# Altium footprint library Euroquartz.PcbLib: 3 footprints
Each footprint in its own frame and in the unit in brackets; x right, y up, seen from the top. Pads: shape width x height; smd on the part's side, far side on the other; paste and mask are expansions set on the pad; w line width, h text height; cw(c..) or ccw(c..) is an arc to the next point about the centre after c.
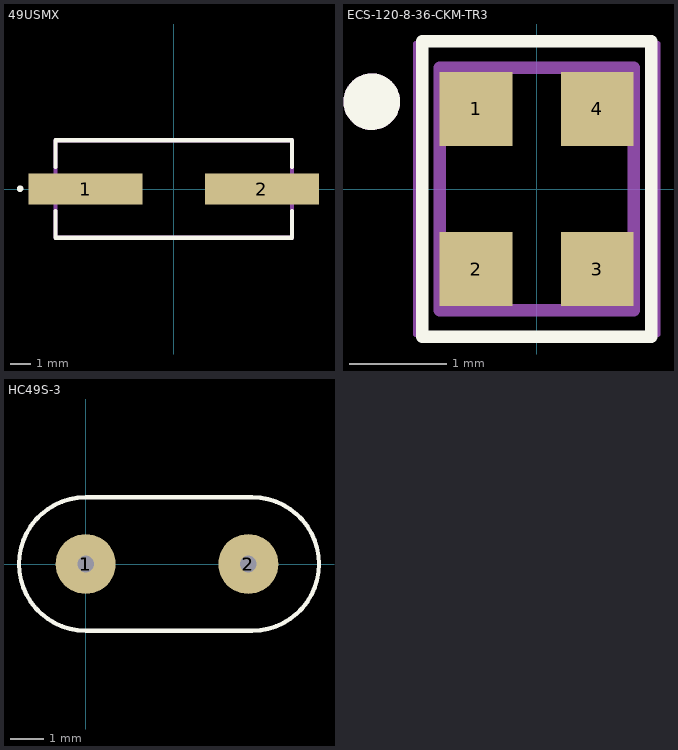
[diagram p0: the footprints below, top view; thin cyan lines are the x and y axes]

## 49USMX [mm]
pads (2):
  rect 5.5x1.5 smd: 1(-4.25,0) 2(4.25,0)
Top Overlay:
  circle w0.2: c-7.408,0.014 r0.054
  lines w0.2: -5.7,-1.066 -5.7,-2.35 5.7,-2.35 5.7,-1.066 ; -5.7,1.066 -5.7,2.35 5.7,2.35 5.7,1.066
Mechanical 13:
  lines w0.2: -5.7,-2.35 -5.7,2.35 5.7,2.35 5.7,-2.35 -5.7,-2.35
3D body "ABLS2-16.384MHZ-D4Y-T--3DModel-STEP-400430.STEP": height 3.16, standoff -0.1, extent -6.35,-2.349 6.35,2.35

## ECS-120-8-36-CKM-TR3 [mm] "CRYSTAL 12.0000MHZ 8PF SMD"
pads (4):
  rect 0.75x0.76 smd: 1(-0.625,0.825) 2(-0.625,-0.825) 3(0.625,-0.825) 4(0.625,0.825)
Top Overlay:
  circle w0.3: c-1.7,0.9 r0.141
  lines w0.127: -1.18,-1.524 -1.18,1.524 1.18,1.524 1.18,-1.524 -1.18,-1.524
Mechanical 13:
  circle w0.3: c-1.7,0.9 r0.141
  lines w0.127: -1,-1.25 -1,1.25 1,1.25 1,-1.25 -1,-1.25
Mechanical 15:
  lines w0.05: -1.25,-1.5 -1.25,1.5 1.25,1.5 1.25,-1.5 -1.25,-1.5
3D body "ABM8W-12.0000MHZ-8-K2Z-T3--3DModel-STEP-400430.STEP": height 0.75, standoff 0, extent -1.25,-1.6 1.25,1.6

## HC49S-3 [mm]
pads (5):
  round 1.8 hole 0.5: 1(0,0) 1(0,0) 1(0,0) 2(4.88,0) 2(4.88,0)
Top Overlay:
  lines w0.127: 0,-2 cw(c0,0) 0,2 ; 0,-2 cw(c0,0) 0,2 ; 0,-2 cw(c0,0) 0,2 ; 0,-2 5,-2 ; 0,-2 5,-2 ; 0,-2 5,-2 ; 0,2 5,2 ; 0,2 5,2 ; 0,2 5,2 ; 5,-2 ccw(c5,0) 5,2 ; 5,-2 ccw(c5,0) 5,2 ; 5,-2 ccw(c5,0) 5,2
3D body "ECS-36-S-4.STEP": height 3.5, standoff -12.7, extent -3.135,-2.325 8.215,2.325